# Altium integrated library Linear Technology Power Management PMIC Multifunction.IntLib: 360 symbols (part 42 of 42)
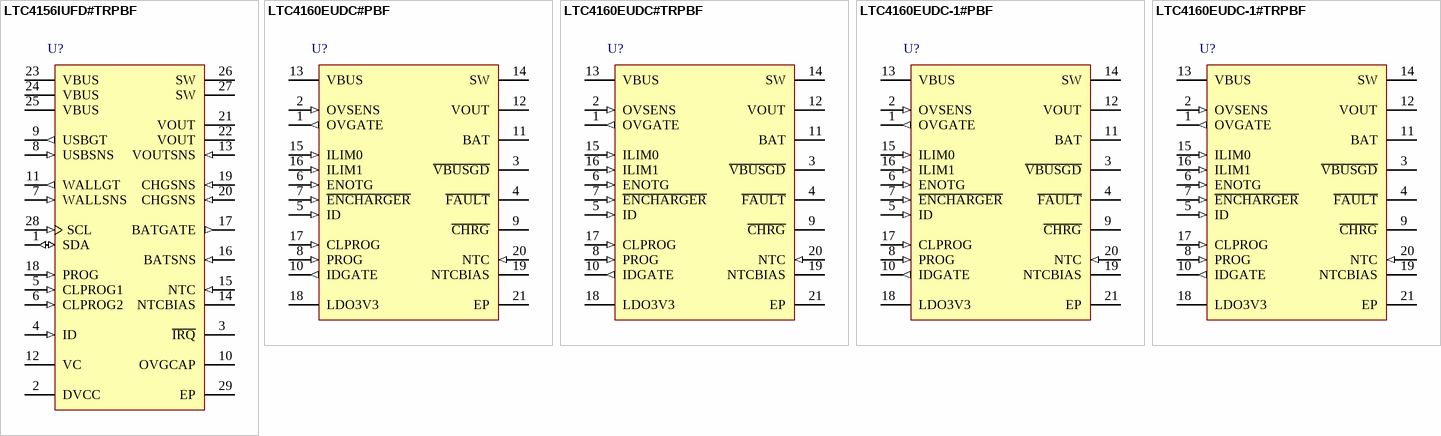
[diagram p59: symbols LTC4156IUFD#TRPBF to LTC4160EUDC-1#TRPBF]

## LTC4160EUDC-1#TRPBF
designator U?
Switching Power Manager with USB On-The-Go And Overvoltage Protection, 4.35 to 5.5 V Vin, 20-pin QFN (UDC-20), -40 to 85 degC, Pb-Free, Tape and Reel; Manufacturer: Linear Technology; PartNumber: LTC4160EUDC-1#TRPBF; Number of Cells: 1; Vin Max(V): 5.5; Vin Min(V): 4.35; DatasheetVersion: Rev. A; PackageVersion: Rev. Ø, 06/2010; PackageReference: UDC20; PackageDescription: 20-Pin Plastic QFN, Body 3 x 4 mm, Pitch 0.5 mm; Supplier 1: Digi-Key; Supplier Part Number 1: LTC4160EUDC-1#TRPBF-ND; Number of Outputs: 1; Packing: Tape and Reel; RoHS: TRUE; Mounting Technology: Surface Mount; ComponentLink1Description: Manufacturer URL; ComponentLink1URL: http://www.linear.com/; ComponentLink2Description: Datasheet; ComponentLink2URL: http://cds.linear.com/docs/en/datasheet/41601fa.pdf; ComponentLink3Description: Package Specification; ComponentLink3URL: http://cds.linear.com/docs/en/packaging/QFN_20_05-08-1742.pdf
footprint LT-UDC-20_N (QFN, 20-Leads, Body 4.1x3.1mm, Pitch 0.5mm, Thermal Pad 2.65x1.65mm, IPC Medium Density)
footprint LT-UDC-20_L (QFN, 20-Leads, Body 4.1x3.1mm, Pitch 0.5mm, Thermal Pad 2.65x1.65mm, IPC High Density)
footprint LT-UDC-20_M (QFN, 20-Leads, Body 4.1x3.1mm, Pitch 0.5mm, Thermal Pad 2.65x1.65mm, IPC Low Density)
pins: 1 OVGATE (out) "Overvoltage Protection Gate Output. Connect OVGATE to the gate pin of an external N-channel MOSFET. The source of the transistor should be connected to VBUS and the drain should be connected to the product’s DC inpu(See Datasheet)", 2 OVSENS (in) "Overvoltage Protection Sense Input. OVSENS should be connected through a 6.2k resistor to the input power connector and the drain of an external N-channel MOSFET. When the voltage on this pin exceeds VOVCUTOFF, the OVGATE (See Datasheet)", 3 ~{VBUSGD} (oc) "Logic Output. This is an open-drain output which indicates that VBUS is above VUVLO and VDUVLO. V\B\U\G\D\ requires a pull-up resistor and/or LED to provide indication.", 4 ~{FAULT} (oc) "Logic Output. This in an open-drain output which indicates a bad battery fault when the charger is enabled or a short circuit condition on VBUS when the bidirectional PowerPath switching regulator is in step-up mode (See Datasheet)", 5 ID (in) "Logic Input. This pin independently enables the bidirectional switching regulator to step-up the voltage on VOUT and provide a 5V output on the VBUS pin for USB On-The-Go applications. If the host does not power down VBUS (See Datasheet)", 6 ENOTG (in) "Logic Input. This pin independently enables the bidirectional switching regulator to step-up the voltage on VOUT and provide a 5V output on the VBUS pin for USB On-The-Go applications. Active high. Has an internal 1.8uA (See Datasheet)", 7 ~{ENCHARGER} (in) "Logic Input. This pin enables the battery charger. Active low. Has an internal 1.8uA pulldown current source.", 8 PROG (in) "Charge Current Program and Charge Current Monitor Pin. Connecting a 1% resistor from PROG to ground, programs the charge current. If sufficient input power is available in constant-current mode, this pin servos to 1V. The (See Datasheet)", 9 ~{CHRG} (oc) "Logic Output. This is an open-drain output that indicates whether the battery is charging or not charging. C\H\R\G\ requires a pull-up resistor and/or LED to provide indication.", 10 IDGATE (out) "Ideal Diode Amplifier Output. This pin controls the gate of an optional external P-channel MOSFET used as an ideal diode between VOUT and BAT. The external ideal diode operates in parallel with the internal ideal diode. The (See Datasheet)", 11 BAT (power) "Single Cell Li-Ion Battery Pin. Depending on available VBUS power, a Li-Ion battery on BAT will either deliver power to VOUT through the ideal diode or be charged from VOUT via the battery charger.", 12 VOUT (power) "Output Voltage of the Bidirectional Power-Path Switching Regulator in Step-Down Mode and Input Voltage of the Battery Charger. The majority of the portable product should be powered from VOUT. The LTC4160/LTC4160-1 will (See Datasheet)", 13 VBUS (power) "Power Pin. This pin delivers power to VOUT via the SW pin by drawing controlled current from a DC source such as a USB port or DC output wall adapter. In On-The-Go mode this pin provides power to external loads. Bypass VBUS (See Datasheet)", 14 SW (power) "The SW pin transfers power between VBUS to VOUT via the bidirectional switching regulator. See the Applications Information section for a discussion of inductance value and current rating.", 15 ILIM0 (in) "ILIM0 control the VBUS input current limit of the bidirectional PowerPath switching regulator in step-down mode. See Table 1. Each has an internal 1.8uA pull-down current source.", 16 ILIM1 (in) "ILIM1 control the VBUS input current limit of the bidirectional PowerPath switching regulator in step-down mode. See Table 1. Each has an internal 1.8uA pull-down current source.", 17 CLPROG (in) "USB Current Limit Program and Monitor Pin. A 1% resistor from CLPROG to ground determines the upper limit of the current drawn or sourced from the VBUS pin. A precise fraction, hCLPROG, of the VBUS current is sent to the (See Datasheet)", 18 LDO3V3 (power) "3.3V LDO Output Pin. This pin provides a regulated always-on 3.3V supply voltage. LDO3V3 gets its power from VOUT. It may be used for light loads such as a watch dog microprocessor or real time clock. A 1uF capacitor is (See Datasheet)", 19 NTCBIAS "NTC Thermistor Bias Output. If NTC operation is desired, connect a bias resistor between NTCBIAS and NTC, and an NTC thermistor between NTC and GND. To disable NTC operation, connect NTC to GND and leave NTCBIAS open.", 20 NTC (in) "Input to the Thermistor Monitoring Circuits. The NTC pin connects to a negative temperature coefficient thermistor, which is typically co-packaged with the battery, to determine if the battery is too hot or too cold to (See Datasheet)", 21 EP (power) "Ground. The Exposed Pad should be connected to a continuous ground plane on the second layer of the printed circuit board by several vias directly under the LTC4160/LTC4160-1."